# Altium schematic symbol library WCAP-ATUL.SchLib: 122 symbols (part 3 of 3)
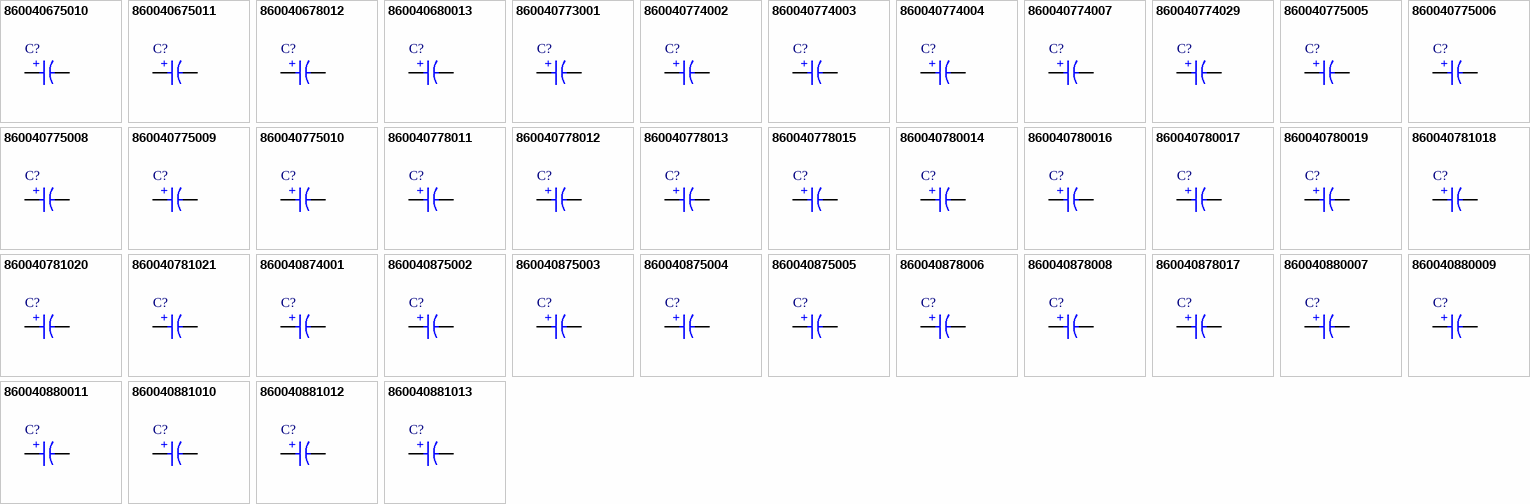
[diagram p5: symbols 860040675010 to 860040881013]

## 860040875003
designator C?, comment 68µF  (value not drawn)
WCAP-ATUL Aluminum Electrolytic Capacitor, Radial, THT, 10mm x 16mm, 68µF, 100V; Manufacturer Part Number: 860040875003; Manufacturer: Wurth Elektronik; Capacitance Tolerance: 20%; Dissipation Factor: 9%; Endurance: 7000h; Leakage Current: 68µA; Ripple Current: 460mA; Category: Aluminum Electrolytic Capacitors; Match Code: WCAP-ATUL; ComponentLink1Description: Website Link; ComponentLink1URL: https://www.we-online.com/redexpert/article/860040875003?ad; ComponentLink2Description: Datasheet Link; ComponentLink2URL: https://www.we-online.com/redexpert/spec/860040875003?ad; Mount: Through Hole; Min Operating Temperature: -40°C; Max Operating Temperature: 105°C; Packaging: Ammo Pack; Height: 16mm; Diameter: 10mm; Capacitance: 68µF; Rated Voltage (DC): 100V
footprint WCAP-ATUL_D10H16
simulation model 860040875003_68uF
pins: 1 P, 2 N
text: +

## 860040875004
designator C?, comment 82µF  (value not drawn)
WCAP-ATUL Aluminum Electrolytic Capacitor, Radial, THT, 10mm x 20mm, 82µF, 100V; Manufacturer Part Number: 860040875004; Manufacturer: Wurth Elektronik; Capacitance Tolerance: 20%; Dissipation Factor: 9%; Endurance: 7000h; Leakage Current: 82µA; Ripple Current: 600mA; Category: Aluminum Electrolytic Capacitors; Match Code: WCAP-ATUL; ComponentLink1Description: Website Link; ComponentLink1URL: https://www.we-online.com/redexpert/article/860040875004?ad; ComponentLink2Description: Datasheet Link; ComponentLink2URL: https://www.we-online.com/redexpert/spec/860040875004?ad; Mount: Through Hole; Min Operating Temperature: -40°C; Max Operating Temperature: 105°C; Packaging: Ammo Pack; Height: 20mm; Diameter: 10mm; Capacitance: 82µF; Rated Voltage (DC): 100V
footprint WCAP-ATUL_D10H20
simulation model 860040875004_82uF
pins: 1 P, 2 N
text: +

## 860040875005
designator C?, comment 100µF  (value not drawn)
WCAP-ATUL Aluminum Electrolytic Capacitor, Radial, THT, 10mm x 25mm, 100µF, 100V; Manufacturer Part Number: 860040875005; Manufacturer: Wurth Elektronik; Capacitance Tolerance: 20%; Dissipation Factor: 9%; Endurance: 7000h; Leakage Current: 100µA; Ripple Current: 800mA; Category: Aluminum Electrolytic Capacitors; Match Code: WCAP-ATUL; ComponentLink1Description: Website Link; ComponentLink1URL: https://www.we-online.com/redexpert/article/860040875005?ad; ComponentLink2Description: Datasheet Link; ComponentLink2URL: https://www.we-online.com/redexpert/spec/860040875005?ad; Mount: Through Hole; Min Operating Temperature: -40°C; Max Operating Temperature: 105°C; Packaging: Ammo Pack; Height: 25mm; Diameter: 10mm; Capacitance: 100µF; Rated Voltage (DC): 100V
footprint WCAP-ATUL_D10H25
simulation model 860040875005_100uF
pins: 1 P, 2 N
text: +

## 860040878006
designator C?, comment 120µF  (value not drawn)
WCAP-ATUL Aluminum Electrolytic Capacitor, Radial, THT, 13mm x 20mm, 120µF, 100V; Manufacturer Part Number: 860040878006; Manufacturer: Wurth Elektronik; Capacitance Tolerance: 20%; Dissipation Factor: 9%; Endurance: 10000h; Leakage Current: 120µA; Ripple Current: 900mA; Category: Aluminum Electrolytic Capacitors; Match Code: WCAP-ATUL; ComponentLink1Description: Website Link; ComponentLink1URL: https://www.we-online.com/redexpert/article/860040878006?ad; ComponentLink2Description: Datasheet Link; ComponentLink2URL: https://www.we-online.com/redexpert/spec/860040878006?ad; Mount: Through Hole; Min Operating Temperature: -40°C; Max Operating Temperature: 105°C; Packaging: Ammo Pack; Height: 20mm; Diameter: 13mm; Capacitance: 120µF; Rated Voltage (DC): 100V
footprint WCAP-ATUL_D13H20
simulation model 860040878006_120uF
pins: 1 P, 2 N
text: +

## 860040878008
designator C?, comment 330µF  (value not drawn)
WCAP-ATUL Aluminum Electrolytic Capacitor, Radial, THT, 13mm x 40mm, 330µF, 100V; Manufacturer Part Number: 860040878008; Manufacturer: Wurth Elektronik; Capacitance Tolerance: 20%; Dissipation Factor: 9%; Endurance: 10000h; Leakage Current: 330µA; Ripple Current: 1600mA; Category: Aluminum Electrolytic Capacitors; Match Code: WCAP-ATUL; ComponentLink1Description: Website Link; ComponentLink1URL: https://www.we-online.com/redexpert/article/860040878008?ad; ComponentLink2Description: Datasheet Link; ComponentLink2URL: https://www.we-online.com/redexpert/spec/860040878008?ad; Mount: Through Hole; Min Operating Temperature: -40°C; Max Operating Temperature: 105°C; Packaging: Ammo Pack; Height: 40mm; Diameter: 13mm; Capacitance: 330µF; Rated Voltage (DC): 100V
footprint WCAP-ATUL_D13H40
simulation model 860040878008_330uF
pins: 1 P, 2 N
text: +

## 860040878017
designator C?, comment 220µF  (value not drawn)
WCAP-ATUL Aluminum Electrolytic Capacitor, Radial, THT, 13mm x 25mm, 220µF, 100V; Manufacturer Part Number: 860040878017; Manufacturer: Wurth Elektronik; Capacitance Tolerance: 20%; Dissipation Factor: 8%; Endurance: 10000h; Leakage Current: 220µA; Ripple Current: 2220mA; Category: Aluminum Electrolytic Capacitors; Match Code: WCAP-ATUL; ComponentLink1Description: Website Link; ComponentLink1URL: https://www.we-online.com/redexpert/article/860040878017?ad; ComponentLink2Description: Datasheet Link; ComponentLink2URL: https://www.we-online.com/redexpert/spec/860040878017?ad; Mount: Through Hole; Min Operating Temperature: -40°C; Max Operating Temperature: 105°C; Packaging: Ammopack; Height: 25mm; Diameter: 13mm; Capacitance: 220µF; Rated Voltage (DC): 100V
footprint WCAP-ATUL_D13H25
simulation model 860040878017_220uF
pins: 1 P, 2 N
text: +

## 860040880007
designator C?, comment 270µF  (value not drawn)
WCAP-ATUL Aluminum Electrolytic Capacitor, Radial, THT, 16mm x 25mm, 270µF, 100V; Manufacturer Part Number: 860040880007; Manufacturer: Wurth Elektronik; Capacitance Tolerance: 20%; Dissipation Factor: 9%; Endurance: 10000h; Leakage Current: 270µA; Ripple Current: 1480mA; Category: Aluminum Electrolytic Capacitors; Match Code: WCAP-ATUL; ComponentLink1Description: Website Link; ComponentLink1URL: https://www.we-online.com/redexpert/article/860040880007?ad; ComponentLink2Description: Datasheet Link; ComponentLink2URL: https://www.we-online.com/redexpert/spec/860040880007?ad; Mount: Through Hole; Min Operating Temperature: -40°C; Max Operating Temperature: 105°C; Packaging: Ammo Pack; Height: 25mm; Diameter: 16mm; Capacitance: 270µF; Rated Voltage (DC): 100V
footprint WCAP-ATUL_D16H25
simulation model 860040880007_270uF
pins: 1 P, 2 N
text: +

## 860040880009
designator C?, comment 390µF  (value not drawn)
WCAP-ATUL Aluminum Electrolytic Capacitor, Radial, THT, 16mm x 31.5mm, 390µF, 100V; Manufacturer Part Number: 860040880009; Manufacturer: Wurth Elektronik; Capacitance Tolerance: 20%; Dissipation Factor: 9%; Endurance: 10000h; Leakage Current: 390µA; Ripple Current: 1700mA; Category: Aluminum Electrolytic Capacitors; Match Code: WCAP-ATUL; ComponentLink1Description: Website Link; ComponentLink1URL: https://www.we-online.com/redexpert/article/860040880009?ad; ComponentLink2Description: Datasheet Link; ComponentLink2URL: https://www.we-online.com/redexpert/spec/860040880009?ad; Mount: Through Hole; Min Operating Temperature: -40°C; Max Operating Temperature: 105°C; Packaging: Ammo Pack; Height: 31.5mm; Diameter: 16mm; Capacitance: 390µF; Rated Voltage (DC): 100V
footprint WCAP-ATUL_D16H31.5
simulation model 860040880009_390uF
pins: 1 P, 2 N
text: +

## 860040880011
designator C?, comment 470µF  (value not drawn)
WCAP-ATUL Aluminum Electrolytic Capacitor, Radial, THT, 16mm x 35.5mm, 470µF, 100V; Manufacturer Part Number: 860040880011; Manufacturer: Wurth Elektronik; Capacitance Tolerance: 20%; Dissipation Factor: 9%; Endurance: 10000h; Leakage Current: 470µA; Ripple Current: 1880mA; Category: Aluminum Electrolytic Capacitors; Match Code: WCAP-ATUL; ComponentLink1Description: Website Link; ComponentLink1URL: https://www.we-online.com/redexpert/article/860040880011?ad; ComponentLink2Description: Datasheet Link; ComponentLink2URL: https://www.we-online.com/redexpert/spec/860040880011?ad; Mount: Through Hole; Min Operating Temperature: -40°C; Max Operating Temperature: 105°C; Packaging: Ammo Pack; Height: 35.5mm; Diameter: 16mm; Capacitance: 470µF; Rated Voltage (DC): 100V
footprint WCAP-ATUL_D16H35.5
simulation model 860040880011_470uF
pins: 1 P, 2 N
text: +

## 860040881010
designator C?, comment 390µF  (value not drawn)
WCAP-ATUL Aluminum Electrolytic Capacitor, Radial, THT, 18mm x 25mm, 390µF, 100V; Manufacturer Part Number: 860040881010; Manufacturer: Wurth Elektronik; Capacitance Tolerance: 20%; Dissipation Factor: 9%; Endurance: 10000h; Leakage Current: 390µA; Ripple Current: 1740mA; Category: Aluminum Electrolytic Capacitors; Match Code: WCAP-ATUL; ComponentLink1Description: Website Link; ComponentLink1URL: https://www.we-online.com/redexpert/article/860040881010?ad; ComponentLink2Description: Datasheet Link; ComponentLink2URL: https://www.we-online.com/redexpert/spec/860040881010?ad; Mount: Through Hole; Min Operating Temperature: -40°C; Max Operating Temperature: 105°C; Packaging: Ammo Pack; Height: 25mm; Diameter: 18mm; Capacitance: 390µF; Rated Voltage (DC): 100V
footprint WCAP-ATUL_D18H25
simulation model 860040881010_390uF
pins: 1 P, 2 N
text: +

## 860040881012
designator C?, comment 470µF  (value not drawn)
WCAP-ATUL Aluminum Electrolytic Capacitor, Radial, THT, 18mm x 31.5mm, 470µF, 100V; Manufacturer Part Number: 860040881012; Manufacturer: Wurth Elektronik; Capacitance Tolerance: 20%; Dissipation Factor: 9%; Endurance: 10000h; Leakage Current: 470µA; Ripple Current: 1600mA; Category: Aluminum Electrolytic Capacitors; Match Code: WCAP-ATUL; ComponentLink1Description: Website Link; ComponentLink1URL: https://www.we-online.com/redexpert/article/860040881012?ad; ComponentLink2Description: Datasheet Link; ComponentLink2URL: https://www.we-online.com/redexpert/spec/860040881012?ad; Mount: Through Hole; Min Operating Temperature: -40°C; Max Operating Temperature: 105°C; Packaging: Ammo Pack; Height: 31.5mm; Diameter: 18mm; Capacitance: 470µF; Rated Voltage (DC): 100V
footprint WCAP-ATUL_D18H31.5
simulation model 860040881012_470uF
pins: 1 P, 2 N
text: +

## 860040881013
designator C?, comment 680µF  (value not drawn)
WCAP-ATUL Aluminum Electrolytic Capacitor, Radial, THT, 18mm x 35.5mm, 680µF, 100V; Manufacturer Part Number: 860040881013; Manufacturer: Wurth Elektronik; Capacitance Tolerance: 20%; Dissipation Factor: 9%; Endurance: 10000h; Leakage Current: 680µA; Ripple Current: 1720mA; Category: Aluminum Electrolytic Capacitors; Match Code: WCAP-ATUL; ComponentLink1Description: Website Link; ComponentLink1URL: https://www.we-online.com/redexpert/article/860040881013?ad; ComponentLink2Description: Datasheet Link; ComponentLink2URL: https://www.we-online.com/redexpert/spec/860040881013?ad; Mount: Through Hole; Min Operating Temperature: -40°C; Max Operating Temperature: 105°C; Packaging: Ammo Pack; Height: 35.5mm; Diameter: 18mm; Capacitance: 680µF; Rated Voltage (DC): 100V
footprint WCAP-ATUL_D18H35.5
simulation model 860040881013_680uF
pins: 1 P, 2 N
text: +

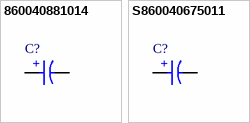
[diagram p3: symbols 860040881014 to S860040675011]

## 860040881014
designator C?, comment 820µF  (value not drawn)
WCAP-ATUL Aluminum Electrolytic Capacitor, Radial, THT, 18mm x 41mm, 820µF, 100V; Manufacturer Part Number: 860040881014; Manufacturer: Wurth Elektronik; Capacitance Tolerance: 20%; Dissipation Factor: 9%; Endurance: 10000h; Leakage Current: 820µA; Ripple Current: 2340mA; Category: Aluminum Electrolytic Capacitors; Match Code: WCAP-ATUL; ComponentLink1Description: Website Link; ComponentLink1URL: https://www.we-online.com/redexpert/article/860040881014?ad; ComponentLink2Description: Datasheet Link; ComponentLink2URL: https://www.we-online.com/redexpert/spec/860040881014?ad; Mount: Through Hole; Min Operating Temperature: -40°C; Max Operating Temperature: 105°C; Packaging: Ammo Pack; Height: 41mm; Diameter: 18mm; Capacitance: 820µF; Rated Voltage (DC): 100V
footprint WCAP-ATUL_D18H41
simulation model 860040881014_820uF
pins: 1 P, 2 N
text: +

## S860040675011
designator C?, comment 470µF  (value not drawn)
WCAP-ATUL Aluminum Electrolytic Capacitor, Radial, THT, 10mm x 30mm, 470µF, 50V; Manufacturer Part Number: S860040675011; Manufacturer: Wurth Elektronik; Capacitance Tolerance: 20%; Dissipation Factor: 10%; Endurance: 7000h; Leakage Current: 235µA; Ripple Current: 1800mA; Category: Aluminum Electrolytic Capacitors; Match Code: WCAP-ATUL; ComponentLink1Description: Website Link; ComponentLink1URL: https://www.we-online.com/redexpert/article/S860040675011?ad; ComponentLink2Description: Datasheet Link; ComponentLink2URL: https://www.we-online.com/redexpert/spec/S860040675011?ad; Mount: Through Hole; Min Operating Temperature: -40°C; Max Operating Temperature: 105°C; Packaging: Tray; Height: 30mm; Diameter: 10mm; Capacitance: 470µF; Rated Voltage (DC): 50V
footprint WCAP-ATUL_D10H30_Horizontal
pins: 1 P, 2 N
text: +